# Altium footprint library Variable_Resistor_PCB_Library_ARAF.PcbLib: 1 footprints
Each footprint in its own frame and in the unit in brackets; x right, y up, seen from the top. Pads: shape width x height; smd on the part's side, far side on the other; paste and mask are expansions set on the pad; w line width, h text height; cw(c..) or ccw(c..) is an arc to the next point about the centre after c.
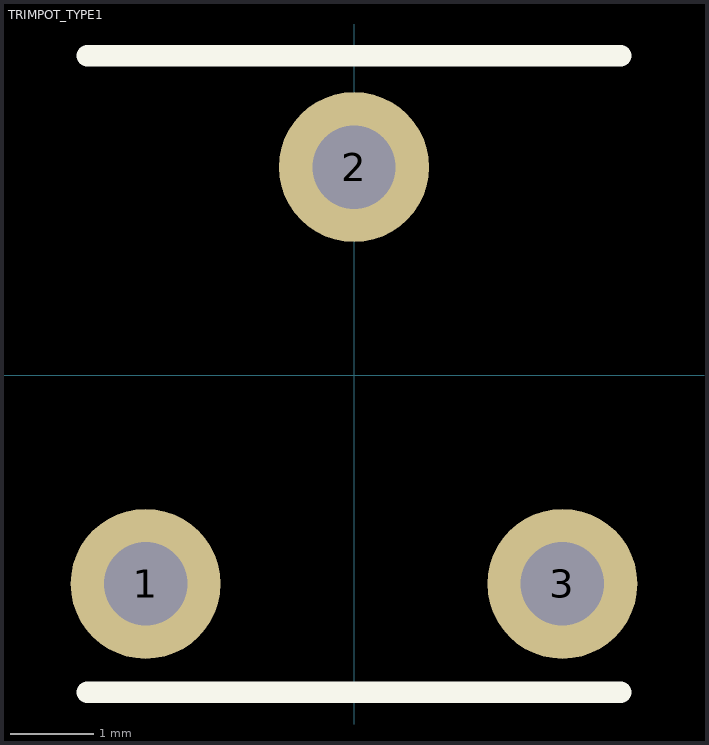
[diagram p0: the footprint, top view; thin cyan lines are the x and y axes]

## TRIMPOT_TYPE1 [mm]
pads (3):
  round 1.8 hole 1: 1(-2.5,-2.5) 2(0,2.5) 3(2.5,-2.5)
Top Overlay:
  lines w0.254: -3.2,-3.8 3.2,-3.8 ; -3.2,3.835 3.2,3.835
3D body "Potentiometer_Trim_THT.step": height 7.35, standoff -3.7, extent -3.254,-3.549 3.226,3.651